# EAGLE library part OUTLINE-PADS-10 (library ELL-i-Boards)
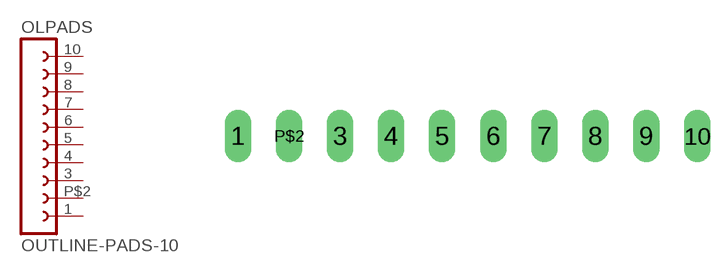
[diagram p2: symbol with the pads of DIN49073-1:2010-02-PADS-10; footprint DIN49073-1:2010-02-PADS-10]

Designator prefix OLPADS

## OUTLINE-PADS-10  [DIN49073-1:2010-02-PADS-10]
1  1  pas
3  3  pas
4  4  pas
5  5  pas
6  6  pas
7  7  pas
8  8  pas
9  9  pas
10  10  pas
P$2  2  pas

## Footprint DIN49073-1:2010-02-PADS-10 (pad centres in mm)
drill 0.8 long: 1 -11.43,0; 3 -6.35,0; 4 -3.81,0; 5 -1.27,0; 6 1.27,0; 7 3.81,0; 8 6.35,0; 9 8.89,0; 10 11.43,0; P$2 -8.89,0